# Altium schematic symbol library 单片机及相关.SCHLIB: 59 symbols
Pins are listed as number, name and electrical type; pins without a type are passive.

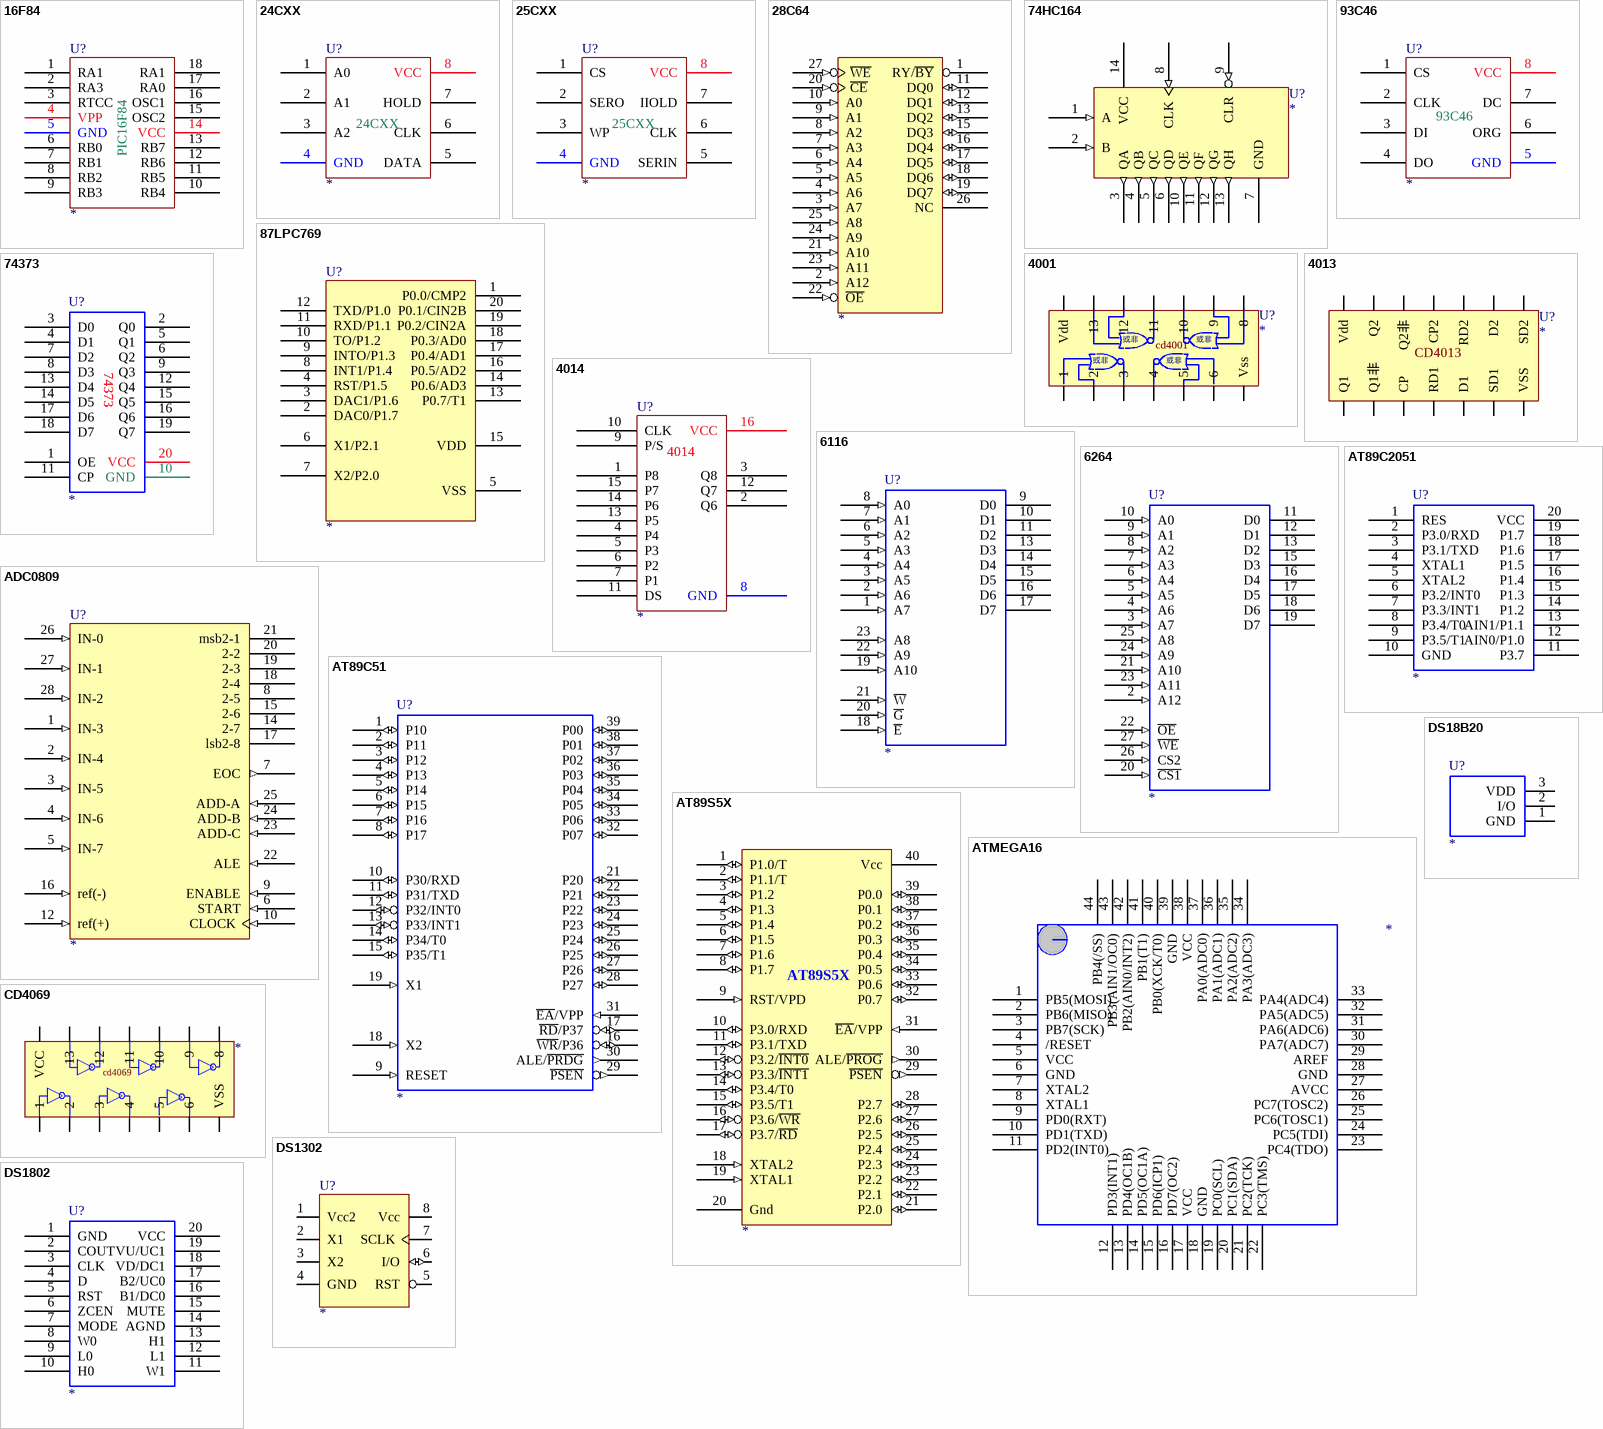
[diagram p0: symbols 16F84 to DS1802]

## 16F84
designator U?
footprint HDR1X15 (Connector; Header; 15 Position)
pins: 1 RA1, 2 RA3, 3 RTCC, 4 VPP, 5 GND, 6 RB0, 7 RB1, 8 RB2, 9 RB3, 10 RB4, 11 RB5, 12 RB6, 13 RB7, 14 VCC, 15 OSC2, 16 OSC1, 17 RA0, 18 RA1
text: PIC16F84

## 24CXX
designator U?
footprint DIP8
pins: 1 A0, 2 A1, 3 A2, 4 GND, 5 DATA, 6 CLK, 7 HOLD, 8 VCC

## 25CXX
designator U?
footprint DIP8
pins: 1 CS, 2 SERO, 3 WP, 4 GND, 5 SERIN, 6 CLK, 7 IIOLD, 8 VCC

## 28C64
designator ?
pins: 1 RY/~{BY} (oc), 2 A12 (in), 3 A7 (in), 4 A6 (in), 5 A5 (in), 6 A4 (in), 7 A3 (in), 8 A2 (in), 9 A1 (in), 10 A0 (in), 11 DQ0 (io), 12 DQ1 (io), 13 DQ2 (io), 15 DQ3 (io), 16 DQ4 (io), 17 DQ5 (io), 18 DQ6 (io), 19 DQ7 (io), 20 ~{CE} (in), 21 A10 (in), 22 ~{OE} (in), 23 A11 (in), 24 A9 (in), 25 A8 (in), 26 NC, 27 ~{WE} (in)

## 74HC164
designator U?
footprint DIP14
pins: 1 A (in), 2 B (in), 3 QA (out), 4 QB (out), 5 QC (out), 6 QD (out), 7 GND (power), 8 CLK (in), 9 CLR (in), 10 QE (out), 11 QF (out), 12 QG (out), 13 QH (out), 14 VCC (power)

## 87LPC769
designator U?
footprint DIP20
pins: 1 P0.0/CMP2, 2 DAC0/P1.7, 3 DAC1/P1.6, 4 RST/P1.5, 5 VSS, 6 X1/P2.1, 7 X2/P2.0, 8 INT1/P1.4, 9 INTO/P1.3, 10 TO/P1.2, 11 RXD/P1.1, 12 TXD/P1.0, 13 P0.7/T1, 14 P0.6/AD3, 15 VDD, 16 P0.5/AD2, 17 P0.4/AD1, 18 P0.3/AD0, 19 P0.2/CIN2A, 20 P0.1/CIN2B

## 93C46
designator U?
footprint DIP8
pins: 1 CS, 2 CLK, 3 DI, 4 DO, 5 GND, 6 ORG, 7 DC, 8 VCC

## 4001
designator U?
footprint DIP14
pins: 1, 2, 3, 4, 5, 6, 7 Vss, 8, 9, 10, 11, 12, 13, 14 Vdd
text: 或非; cd4001

## 4013
designator U?
footprint DIP14
pins: 1 Q1, 2 Q1非, 3 CP, 4 RD1, 5 D1, 6 SD1, 7 VSS, 8 SD2, 9 D2, 10 RD2, 11 CP2, 12 Q2非, 13 Q2, 14 Vdd
text: CD4013

## 4014
designator U?
footprint DIP16
pins: 1 P8, 2 Q6, 3 Q8, 4 P4, 5 P3, 6 P2, 7 P1, 8 GND, 9 P/S, 10 CLK, 11 DS, 12 Q7, 13 P5, 14 P6, 15 P7, 16 VCC

## 6116
designator U?
footprint DIP-24
pins: 1 A7 (in), 2 A6 (in), 3 A5 (in), 4 A4 (in), 5 A3 (in), 6 A2 (in), 7 A1 (in), 8 A0 (in), 9 D0 (hiz), 10 D1 (hiz), 11 D2 (hiz), 13 D3 (hiz), 14 D4 (hiz), 15 D5 (hiz), 16 D6 (hiz), 17 D7 (hiz), 18 ~{E} (in), 19 A10 (in), 20 ~{G} (in), 21 ~{W} (in), 22 A9 (in), 23 A8 (in)

## 6264
designator U?
footprint DIP-28
pins: 2 A12 (in), 3 A7 (in), 4 A6 (in), 5 A5 (in), 6 A4 (in), 7 A3 (in), 8 A2 (in), 9 A1 (in), 10 A0 (in), 11 D0 (hiz), 12 D1 (hiz), 13 D2 (hiz), 14 GND (power) hidden to GND, 15 D3 (hiz), 16 D4 (hiz), 17 D5 (hiz), 18 D6 (hiz), 19 D7 (hiz), 20 ~{CS1} (in), 21 A10 (in), 22 ~{OE} (in), 23 A11 (in), 24 A9 (in), 25 A8 (in), 26 CS2 (in), 27 ~{WE} (in)

## 74373
designator U?
footprint DIP20
pins: 1 OE, 2 Q0, 3 D0, 4 D1, 5 Q1, 6 Q2, 7 D2, 8 D3, 9 Q3, 10 GND, 11 CP, 12 Q4, 13 D4, 14 D5, 15 Q5, 16 Q6, 17 D6, 18 D7, 19 Q7, 20 VCC

## ADC0809
designator U?
footprint DIP28
pins: 1 IN-3 (in), 2 IN-4 (in), 3 IN-5 (in), 4 IN-6 (in), 5 IN-7 (in), 6 START (in), 7 EOC (out), 8 2-5 (hiz), 9 ENABLE (in), 10 CLOCK (in), 12 ref(+) (in), 13 GND (power) hidden to GND, 14 2-7 (hiz), 15 2-6 (hiz), 16 ref(-) (in), 17 lsb2-8 (hiz), 18 2-4 (hiz), 19 2-3 (hiz), 20 2-2 (hiz), 21 msb2-1 (hiz), 22 ALE (in), 23 ADD-C (in), 24 ADD-B (in), 25 ADD-A (in), 26 IN-0 (in), 27 IN-1 (in), 28 IN-2 (in)

## AT89C51
designator U?
footprint DIP-40
pins: 1 P10 (io), 2 P11 (io), 3 P12 (io), 4 P13 (io), 5 P14 (io), 6 P15 (io), 7 P16 (io), 8 P17 (io), 9 RESET (in), 10 P30/RXD (io), 11 P31/TXD (io), 12 P32/INT0 (io), 13 P33/INT1 (io), 14 P34/T0 (io), 15 P35/T1 (io), 16 ~{WR}/P36 (io), 17 ~{RD}/P37 (io), 18 X2 (in), 19 X1 (in), 20 GND (power) hidden to GND, 21 P20 (io), 22 P21 (io), 23 P22 (io), 24 P23 (io), 25 P24 (io), 26 P25 (io), 27 P26 (io), 28 P27 (io), 29 ~{PSEN} (out), 30 ALE/~{PRDG} (out), 31 ~{EA}/VPP (in), 32 P07 (io), 33 P06 (io), 34 P05 (io), 35 P04 (io), 36 P03 (io), 37 P02 (io), 38 P01 (io), 39 P00 (io), 40 VCC (power) hidden to VCC

## AT89C2051
designator U?
footprint DIP-20
pins: 1 RES, 2 P3.0/RXD, 3 P3.1/TXD, 4 XTAL1, 5 XTAL2, 6 P3.2/INT0, 7 P3.3/INT1, 8 P3.4/T0, 9 P3.5/T1, 10 GND, 11 P3.7, 12 AIN0/P1.0, 13 AIN1/P1.1, 14 P1.2, 15 P1.3, 16 P1.4, 17 P1.5, 18 P1.6, 19 P1.7, 20 VCC

## AT89S5X
designator ?
footprint LOCK40PIN (green lock IC)
footprint DIP40
pins: 1 P1.0/T (io), 2 P1.1/T (io), 3 P1.2 (io), 4 P1.3 (io), 5 P1.4 (io), 6 P1.5 (io), 7 P1.6 (io), 8 P1.7 (io), 9 RST/VPD (in), 10 P3.0/RXD (io), 11 P3.1/TXD (io), 12 P3.2/~{INT0} (io), 13 P3.3/~{INT1} (io), 14 P3.4/T0 (io), 15 P3.5/T1 (io), 16 P3.6/~{WR} (io), 17 P3.7/~{RD} (io), 18 XTAL2 (in), 19 XTAL1 (in), 20 Gnd (power), 21 P2.0 (io), 22 P2.1 (io), 23 P2.2 (io), 24 P2.3 (io), 25 P2.4 (io), 26 P2.5 (io), 27 P2.6 (io), 28 P2.7 (io), 29 ~{PSEN} (out), 30 ALE/~{PROG} (out), 31 ~{EA}/VPP (in), 32 P0.7 (io), 33 P0.6 (io), 34 P0.5 (io), 35 P0.4 (io), 36 P0.3 (io), 37 P0.2 (io), 38 P0.1 (io), 39 P0.0 (io), 40 Vcc (power)

## ATMEGA16
designator ?
pins: 1 PB5(MOSI), 2 PB6(MISO), 3 PB7(SCK), 4 /RESET, 5 VCC, 6 GND, 7 XTAL2, 8 XTAL1, 9 PD0(RXT), 10 PD1(TXD), 11 PD2(INT0), 12 PD3(INT1), 13 PD4(OC1B), 14 PD5(OC1A), 15 PD6(ICP1), 16 PD7(OC2), 17 VCC, 18 GND, 19 PC0(SCL), 20 PC1(SDA), 21 PC2(TCK), 22 PC3(TMS), 23 PC4(TDO), 24 PC5(TDI), 25 PC6(TOSC1), 26 PC7(TOSC2), 27 AVCC, 28 GND, 29 AREF, 30 PA7(ADC7), 31 PA6(ADC6), 32 PA5(ADC5), 33 PA4(ADC4), 34 PA3(ADC3), 35 PA2(ADC2), 36 PA1(ADC1), 37 PA0(ADC0), 38 VCC, 39 GND, 40 PB0(XCK/T0), 41 PB1(T1), 42 PB2(AIN0/INT2), 43 PB3(AIN1/OC0), 44 PB4(/SS)

## CD4069
designator ?
pins: 1, 2, 3, 4, 5, 6, 7 VSS, 8, 9, 10, 11, 12, 13, 14 VCC
text: cd4069

## DS18B20
designator U?
footprint TO-92A
pins: 1 GND, 2 I/O, 3 VDD

## DS1302
designator U?
footprint DIP8
pins: 1 Vcc2, 2 X1, 3 X2, 4 GND, 5 RST, 6 I/O (io), 7 SCLK, 8 Vcc

## DS1802
designator U?
footprint DIP-20
pins: 1 GND, 2 COUT, 3 CLK, 4 D, 5 RST, 6 ZCEN, 7 MODE, 8 W0, 9 L0, 10 H0, 11 W1, 12 L1, 13 H1, 14 AGND, 15 MUTE, 16 B1/DC0, 17 B2/UC0, 18 VD/DC1, 19 VU/UC1, 20 VCC

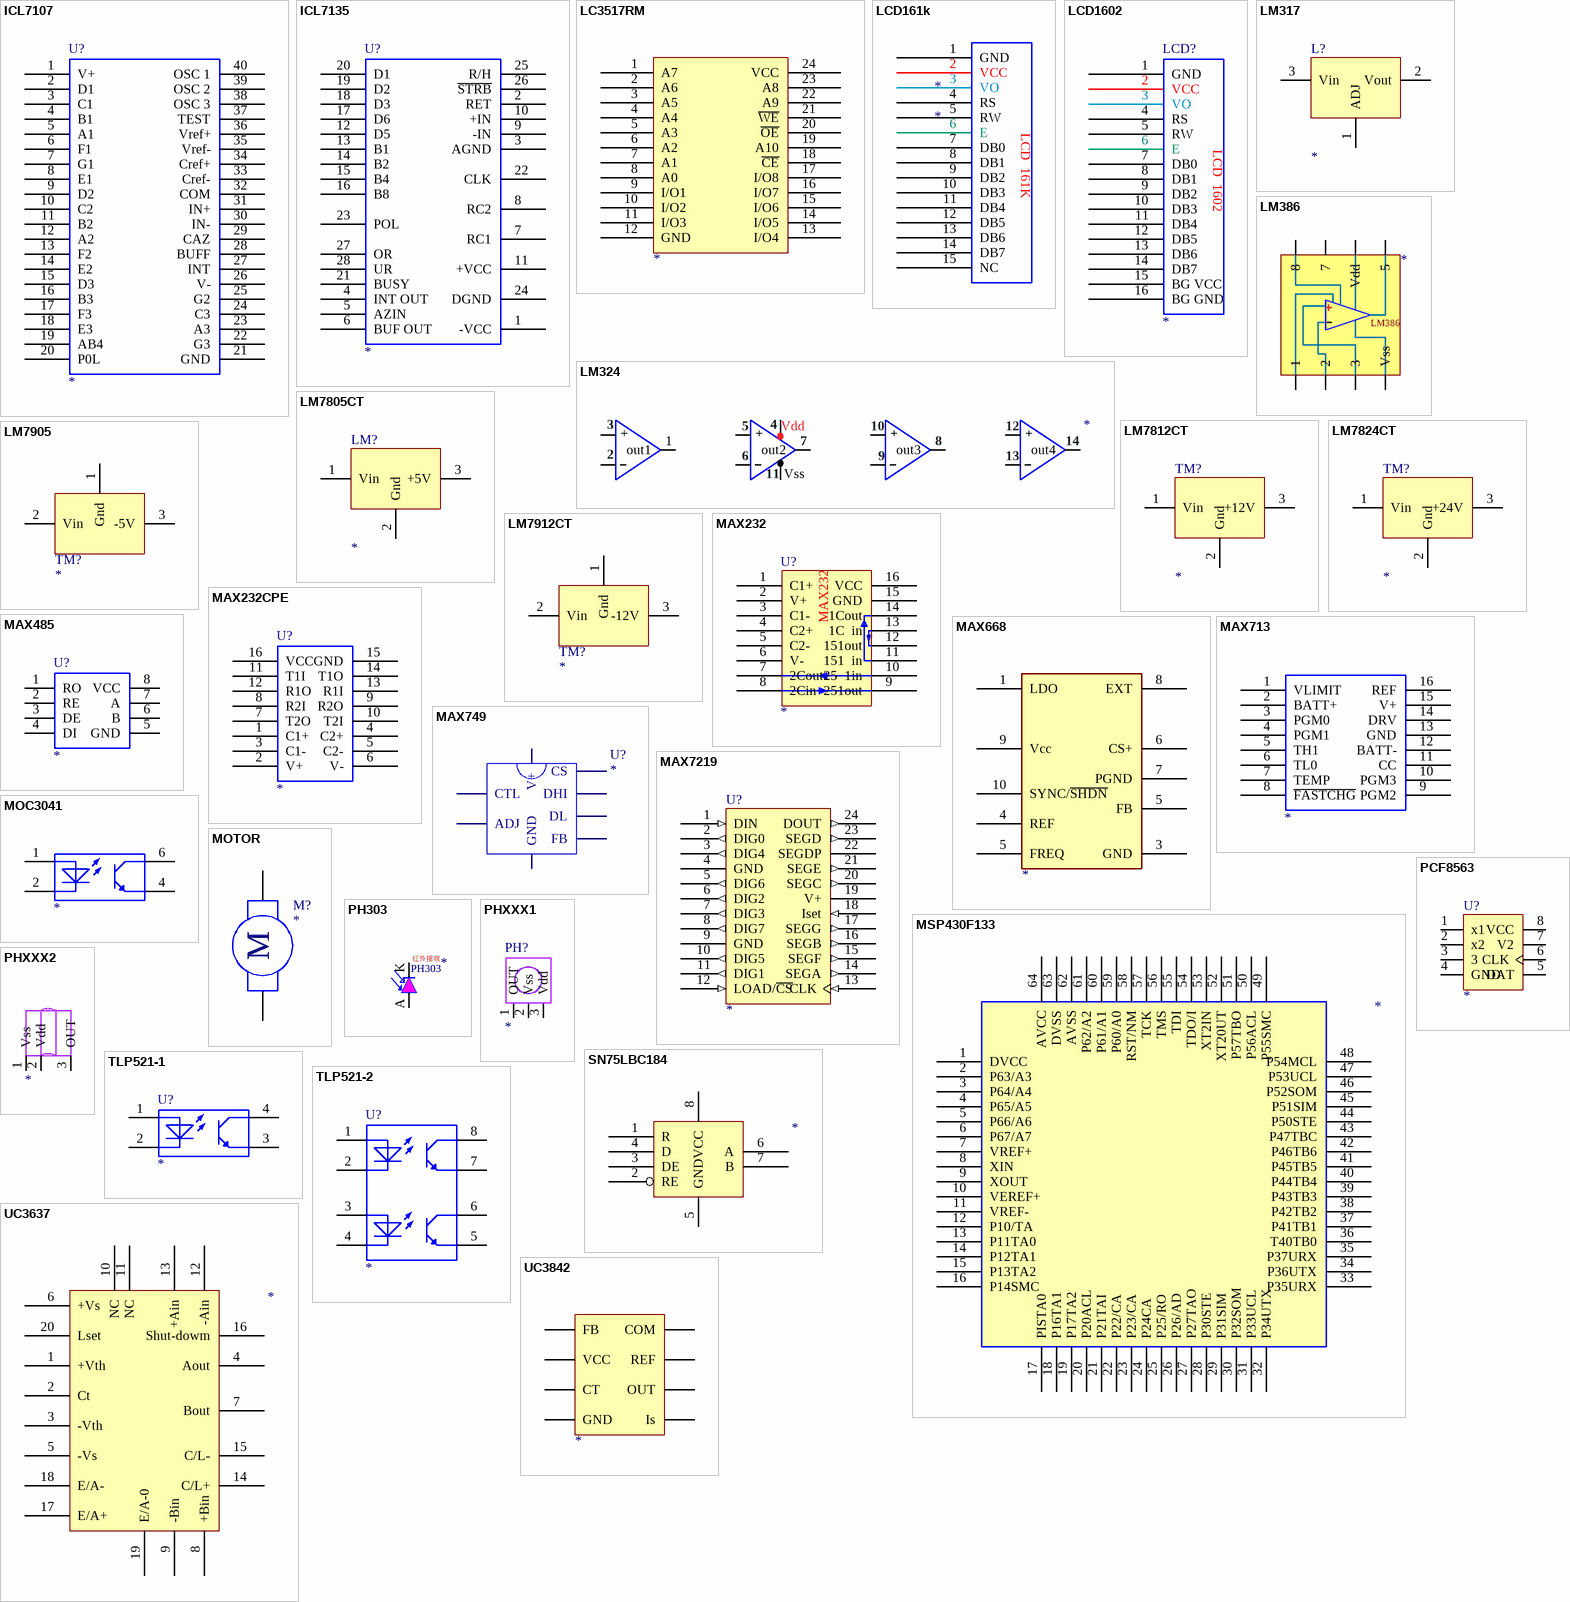
[diagram p1: symbols ICL7107 to UC3842]

## ICL7107
designator U?
footprint DIP-40
pins: 1 V+, 2 D1, 3 C1, 4 B1, 5 A1, 6 F1, 7 G1, 8 E1, 9 D2, 10 C2, 11 B2, 12 A2, 13 F2, 14 E2, 15 D3, 16 B3, 17 F3, 18 E3, 19 AB4, 20 P0L, 21 GND, 22 G3, 23 A3, 24 C3, 25 G2, 26 V-, 27 INT, 28 BUFF, 29 CAZ, 30 IN-, 31 IN+, 32 COM, 33 Cref-, 34 Cref+, 35 Vref-, 36 Vref+, 37 TEST, 38 OSC 3, 39 OSC 2, 40 OSC 1

## ICL7135
designator U?
footprint DIP-28
pins: 1 -VCC, 2 RET, 3 AGND, 4 INT OUT, 5 AZIN, 6 BUF OUT, 7 RC1, 8 RC2, 9 -IN, 10 +IN, 11 +VCC, 12 D5, 13 B1, 14 B2, 15 B4, 16 B8, 17 D6, 18 D3, 19 D2, 20 D1, 21 BUSY, 22 CLK, 23 POL, 24 DGND, 25 R/H, 26 ~{STRB}, 27 OR, 28 UR

## LC3517RM
designator ?
pins: 1 A7, 2 A6, 3 A5, 4 A4, 5 A3, 6 A2, 7 A1, 8 A0, 9 I/O1, 10 I/O2, 11 I/O3, 12 GND, 13 I/O4, 14 I/O5, 15 I/O6, 16 I/O7, 17 I/O8, 18 ~{CE}, 19 A10, 20 ~{OE}, 21 ~{WE}, 22 A9, 23 A8, 24 VCC

## LCD161k
designator *
footprint HDR1X15 (Connector; Header; 15 Position)
pins: 1 GND, 2 VCC, 3 VO, 4 RS, 5 RW, 6 E, 7 DB0, 8 DB1, 9 DB2, 10 DB3, 11 DB4, 12 DB5, 13 DB6, 14 DB7, 15 NC
text: LCD  161K

## LCD1602
designator LCD?
footprint 1602LCD (LCD module 16*2 char)
pins: 1 GND, 2 VCC, 3 VO, 4 RS, 5 RW, 6 E, 7 DB0, 8 DB1, 9 DB2, 10 DB3, 11 DB4, 12 DB5, 13 DB6, 14 DB7, 15 BG VCC, 16 BG GND
text: LCD  1602

## LM317
designator L?
pins: 1 ADJ, 2 Vout, 3 Vin

## LM324
designator ?
pins: 1 out1, 2, 3, 4, 5, 6, 7 out2, 8 out3, 9, 10, 11, 12, 13, 14 out4
text: Vdd; +; Vss

## LM386
designator ?
pins: 1, 2, 3, 4 Vss, 5, 6 Vdd, 7, 8

## LM7805CT
designator LM?
footprint TO-220
pins: 1 Vin, 2 Gnd, 3 +5V

## LM7812CT
designator TM?
footprint TO-220
pins: 1 Vin, 2 Gnd, 3 +12V

## LM7824CT
designator TM?
footprint TO-220
pins: 1 Vin, 2 Gnd, 3 +24V

## LM7905
designator TM?
footprint TO-220
pins: 1 Gnd, 2 Vin, 3 -5V

## LM7912CT
designator TM?
footprint TO-220
pins: 1 Gnd, 2 Vin, 3 -12V

## MAX232
designator U?
footprint DIP16
pins: 1 C1+, 2 V+, 3 C1-, 4 C2+, 5 C2-, 6 V-, 7 2Cout, 8 2Cin, 9 251out, 10 25  1in, 11 151  in, 12 151out, 13 1C  in, 14 1Cout, 15 GND, 16 VCC

## MAX232CPE
designator U?
footprint DIP-16
pins: 1 C1+, 2 V+, 3 C1-, 4 C2+, 5 C2-, 6 V-, 7 T2O, 8 R2I, 9 R2O, 10 T2I, 11 T1I, 12 R1O, 13 R1I, 14 T1O, 15 GND, 16 VCC

## MAX485
designator U?
footprint DIP-4
pins: 1 RO, 2 RE, 3 DE, 4 DI, 5 GND, 6 B, 7 A, 8 VCC

## MAX668
designator ?
pins: 1 LDO, 3 GND, 4 REF, 5 FREQ, 5 FB, 6 CS+, 7 PGND, 8 EXT, 9 Vcc, 10 SYNC/~{SHDN}

## MAX713
designator ?
pins: 1 VLIMIT, 2 BATT+, 3 PGM0, 4 PGM1, 5 TH1, 6 TL0, 7 TEMP, 8 ~{FASTCHG}, 9 PGM2, 10 PGM3, 11 CC, 12 BATT-, 13 GND, 14 DRV, 15 V+, 16 REF

## MAX749
designator U?
footprint DIP8
pins: 1 V+, 2 ADJ, 3 CTL, 4 FB, 5 GND, 6 DL, 7 DHI, 8 CS

## MAX7219
designator U?
footprint DIP24
pins: 1 DIN (in), 2 DIG0 (out), 3 DIG4 (out), 4 GND (power), 5 DIG6 (out), 6 DIG2 (out), 7 DIG3 (out), 8 DIG7 (out), 9 GND (power), 10 DIG5 (out), 11 DIG1 (out), 12 LOAD/~{CS} (in), 13 CLK (in), 14 SEGA (out), 15 SEGF (out), 16 SEGB (out), 17 SEGG (out), 18 Iset (in), 19 V+ (power), 20 SEGC (out), 21 SEGE (out), 22 SEGDP, 23 SEGD (out), 24 DOUT (out)

## MOC3041
designator ?
pins: 1, 2, 3 hidden to 3, 4, 5 hidden to 5, 6

## MOTOR
designator M?
footprint DG1282
pins: 1, 2
text: M

## MSP430F133
designator ?
pins: 1 DVCC, 2 P63/A3, 3 P64/A4, 4 P65/A5, 5 P66/A6, 6 P67/A7, 7 VREF+, 8 XIN, 9 XOUT, 10 VEREF+, 11 VREF-, 12 P10/TA, 13 P11TA0, 14 P12TA1, 15 P13TA2, 16 P14SMC, 17 PISTA0, 18 P16TA1, 19 P17TA2, 20 P20ACL, 21 P21TAI, 22 P22/CA, 23 P23/CA, 24 P24CA, 25 P25/RO, 26 P26/AD, 27 P27TAO, 28 P30STE, 29 P31SIM, 30 P32SOM, 31 P33UCL, 32 P34UTX, 33 P35URX, 34 P36UTX, 35 P37URX, 36 T40TB0, 37 P41TB1, 38 P42TB2, 39 P43TB3, 40 P44TB4, 41 P45TB5, 42 P46TB6, 43 P47TBC, 44 P50STE, 45 P51SIM, 46 P52SOM, 47 P53UCL, 48 P54MCL, 49 P55SMC, 50 P56ACL, 51 P57TBO, 52 XT20UT, 53 XT2IN, 54 TDO/I, 55 TDI, 56 TMS, 57 TCK, 58 RST/NM, 59 P60/A0, 60 P61/A1, 61 P62/A2, 62 AVSS, 63 DVSS, 64 AVCC

## PCF8563
designator U?
footprint DIP8
pins: 1 x1, 2 x2, 3, 4 GND, 5 DAT, 6 CLK, 7 V2, 8 VCC

## PH303
designator ?
pins: A, K
text: 红外接收

## PHXXX1
designator PH?
footprint TO-220
pins: 1 OUT, 2 Vss, 3 Vdd

## PHXXX2
designator ?
footprint TO-220
pins: 1 Vss, 2 Vdd, 3 OUT

## SN75LBC184
designator ?
pins: 1 R, 2 RE, 3 DE, 4 D, 5 GND, 6 A, 7 B, 8 VCC

## TLP521-1
designator U?
footprint DIP4
pins: 1, 2, 3, 4

## TLP521-2
designator U?
footprint DIP8
pins: 1, 2, 3, 4, 5, 6, 7, 8

## UC3637
designator ?
pins: 1 +Vth, 2 Ct, 3 -Vth, 4 Aout, 5 -Vs, 6 +Vs, 7 Bout, 8 +Bin, 9 -Bin, 10 NC, 11 NC, 12 -Ain, 13 +Ain, 14 C/L+, 15 C/L-, 16 Shut-dowm, 17 E/A+, 18 E/A-, 19 E/A-0, 20 Lset

## UC3842
designator ?
pins: 1 COM, 2 FB, 3 Is, 4 CT, 5 GND, 6 OUT, 7 VCC, 8 REF

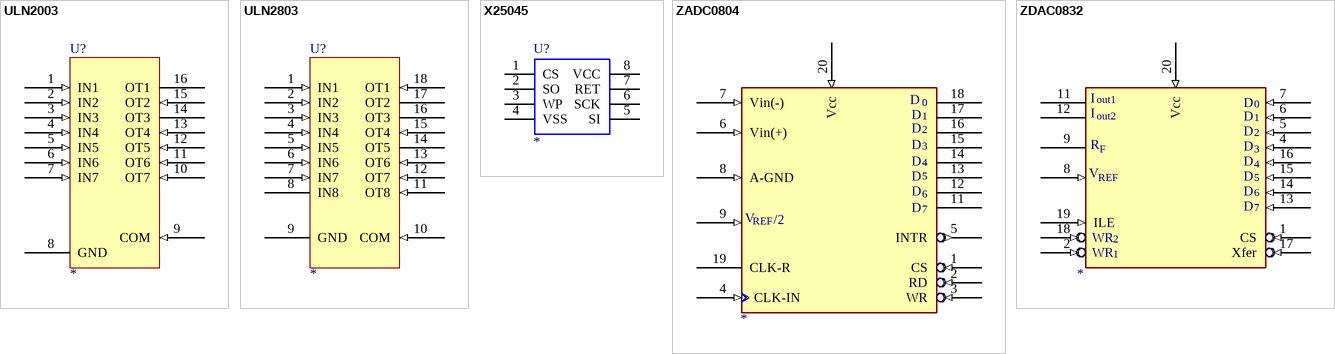
[diagram p2: symbols ULN2003 to ZDAC0832]

## ULN2003
designator U?
footprint DIP16
pins: 1 IN1 (in), 2 IN2 (in), 3 IN3 (in), 4 IN4 (in), 5 IN5 (in), 6 IN6 (in), 7 IN7 (in), 8 GND (power), 9 COM (in), 10 OT7 (in), 11 OT6 (in), 12 OT5 (in), 13 OT4 (in), 14 OT3 (hiz), 15 OT2 (in), 16 OT1 (power)

## ULN2803
designator U?
footprint DIP18
pins: 1 IN1 (in), 2 IN2 (in), 3 IN3 (in), 4 IN4 (in), 5 IN5 (in), 6 IN6 (in), 7 IN7 (in), 8 IN8, 9 GND (power), 10 COM (in), 11 OT8 (in), 12 OT7 (in), 13 OT6 (in), 14 OT5 (hiz), 15 OT4 (in), 16 OT3 (power), 17 OT2, 18 OT1 (in)

## X25045
designator U?
footprint DIP-4
pins: 1 CS, 2 SO, 3 WP, 4 VSS, 5 SI, 6 SCK, 7 RET, 8 VCC

## ZADC0804
designator ?
pins: 1 CS (in), 2 RD (in), 3 WR (in), 4 CLK-IN (in), 5 INTR (out), 6 Vin(+) (in), 7 Vin(-) (in), 8 A-GND (in), 9 Vref/2 (in), 10 GND (power) hidden to GND, 11 msbDB7 (hiz), 12 DB6 (hiz), 13 DB5 (hiz), 14 DB4 (hiz), 15 DB3 (hiz), 16 DB2 (hiz), 17 DB1 (hiz), 18 lsbDB0 (hiz), 19 CLK-R, 20 Vcc (in)
text: D; 0; V; REF; /2

## ZDAC0832
designator ?
pins: 1 CS (in), 2 WR1 (in), 3 GND (power) hidden to GND, 4 DI3 (in), 5 DI2 (in), 6 DI1 (in), 7 lsbDI0 (in), 8 Vref (in), 9 Rfb, 10 GND (power) hidden to GND, 11 Iout1, 12 Iout2, 13 msbDI7 (in), 14 DI6 (in), 15 DI5 (in), 16 DI4 (in), 17 Xfer (in), 18 WR2 (in), 19 ILE (in), 20 Vcc (in)
text: I; out1; D; 0; out2; R; F; V; REF; WR